# Altium footprint library S7061-42R.PcbLib: 1 footprints
Each footprint in its own frame and in the unit in brackets; x right, y up, seen from the top. Pads: shape width x height; smd on the part's side, far side on the other; paste and mask are expansions set on the pad; w line width, h text height; cw(c..) or ccw(c..) is an arc to the next point about the centre after c.
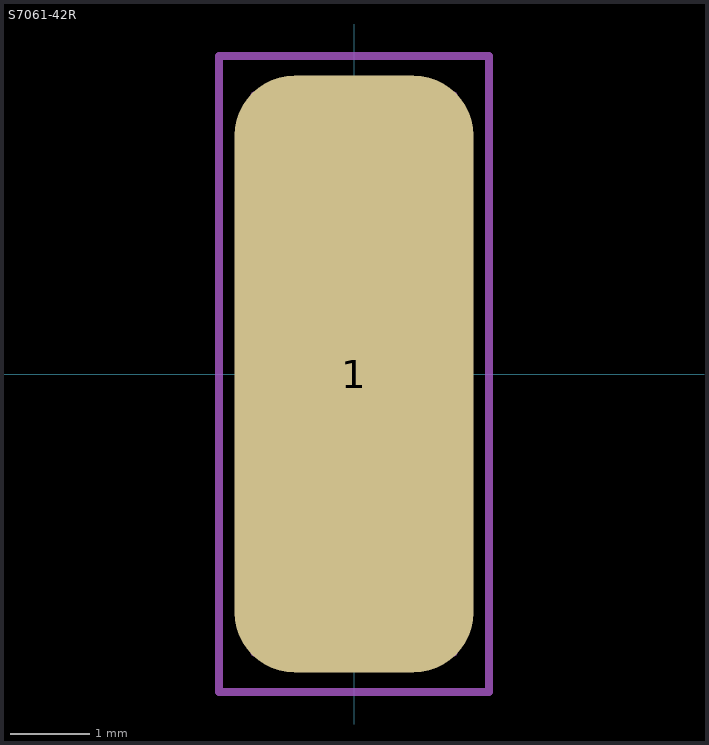
[diagram p0: the footprint, top view; thin cyan lines are the x and y axes]

## S7061-42R [mm]
pads (1):
  rrect50% 3x7.5 smd mask+0.05: 1(0,0)
Top Assembly:
  lines w0.1: -1.25,-0.35 1.25,-0.35 ; -1.25,1.15 1.25,1.15 ; -1,-3.5 -1,-0.35 ; -0.75,-3.5 -0.75,-0.35 ; -0.5,-3.5 -0.5,-0.35 ; -0.25,-3.5 -0.25,-0.35 ; 0,-3.5 0,-0.35 ; 0.25,-3.5 0.25,-0.35 ; 0.5,-3.5 0.5,-0.35 ; 0.75,-3.5 0.75,-0.35 ; 1,-3.5 1,-0.35 ; -1.25,-3.5 1.25,-3.5 1.25,3.5 -1.25,3.5 -1.25,-3.5
Top Courtyard:
  lines w0.1: -1.7,-4 1.7,-4 1.7,4 -1.7,4 -1.7,-4
3D body "s7061-42r.stp": height 5.47, standoff 0, extent -1.25,-3.503 1.25,3.49